# Altium schematic symbol library akm.SchLib: 23 symbols
Pins are listed as number, name and electrical type; pins without a type are passive.

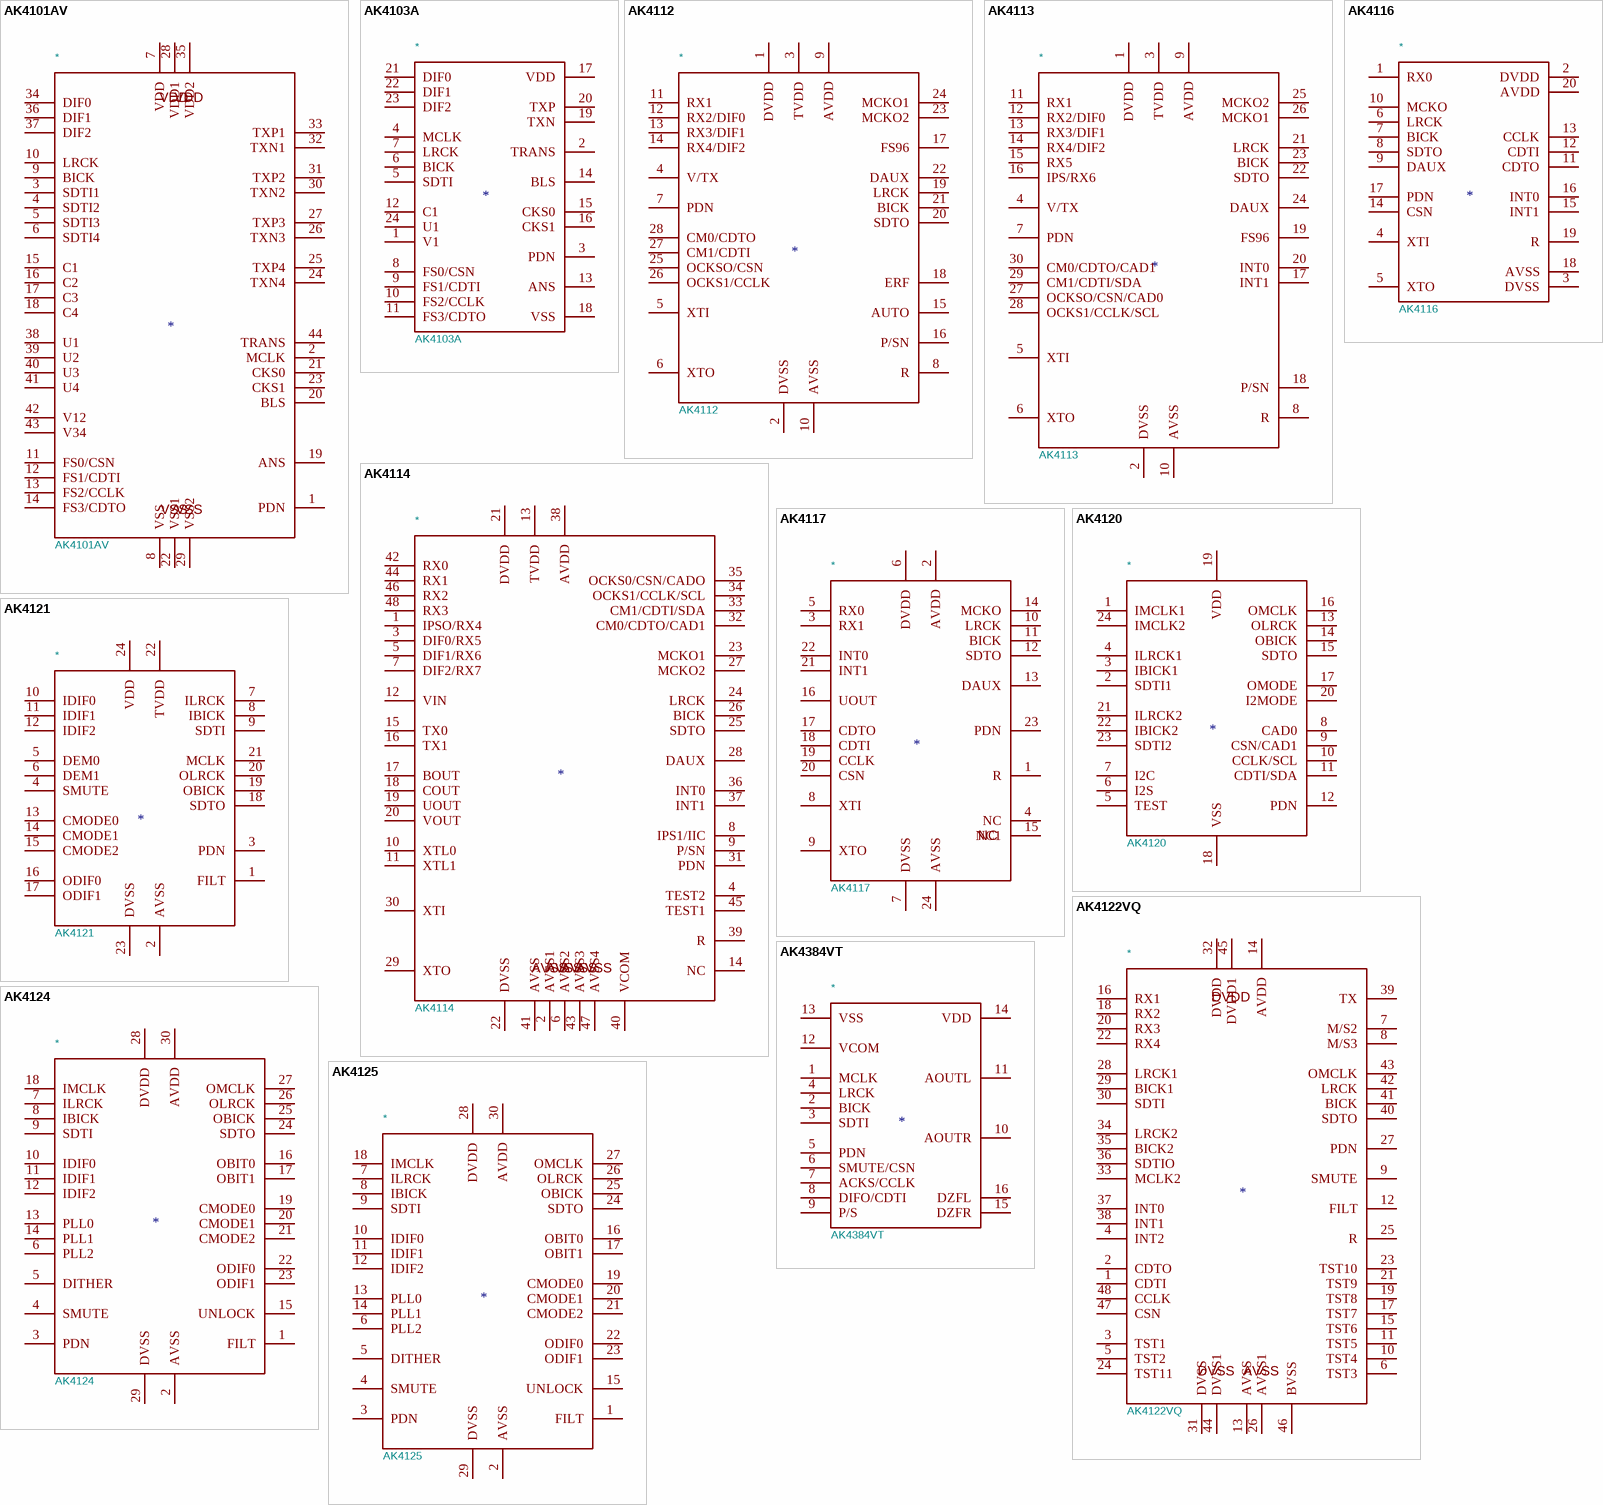
[diagram p0: symbols AK4101AV to AK4384VT]

## AK4101AV
designator *  value AK4101AV
Footprint: akm-LQFP44
footprint akm-LQFP44
pins: 1 PDN, 2 MCLK, 3 SDTI1, 4 SDTI2, 5 SDTI3, 6 SDTI4, 7 VDD, 8 VSS, 9 BICK, 10 LRCK, 11 FS0/CSN, 12 FS1/CDTI, 13 FS2/CCLK, 14 FS3/CDTO, 15 C1, 16 C2, 17 C3, 18 C4, 19 ANS, 20 BLS, 21 CKS0, 22 VSS1, 23 CKS1, 24 TXN4, 25 TXP4, 26 TXN3, 27 TXP3, 28 VDD1, 29 VSS2, 30 TXN2, 31 TXP2, 32 TXN1, 33 TXP1, 34 DIF0, 35 VDD2, 36 DIF1, 37 DIF2, 38 U1, 39 U2, 40 U3, 41 U4, 42 V12, 43 V34, 44 TRANS

## AK4103A
designator *  value AK4103A
Footprint: Package_SO:TSSOP-24_6.1x7.8mm_P0.65mm
footprint TSSOP-24_6.1x7.8mm_P0.65mm
pins: 1 V1, 2 TRANS, 3 PDN, 4 MCLK, 5 SDTI, 6 BICK, 7 LRCK, 8 FS0/CSN, 9 FS1/CDTI, 10 FS2/CCLK, 11 FS3/CDTO, 12 C1, 13 ANS, 14 BLS, 15 CKS0, 16 CKS1, 17 VDD, 18 VSS, 19 TXN, 20 TXP, 21 DIF0, 22 DIF1, 23 DIF2, 24 U1

## AK4112
designator *  value AK4112
Footprint: akm-VSOP28
footprint akm-VSOP28
pins: 1 DVDD, 2 DVSS, 3 TVDD, 4 V/TX, 5 XTI, 6 XTO, 7 PDN, 8 R, 9 AVDD, 10 AVSS, 11 RX1, 12 RX2/DIF0, 13 RX3/DIF1, 14 RX4/DIF2, 15 AUTO, 16 P/SN, 17 FS96, 18 ERF, 19 LRCK, 20 SDTO, 21 BICK, 22 DAUX, 23 MCKO2, 24 MCKO1, 25 OCKSO/CSN, 26 OCKS1/CCLK, 27 CM1/CDTI, 28 CM0/CDTO

## AK4113
designator *  value AK4113
Footprint: akm-VSOP30
footprint akm-VSOP30
pins: 1 DVDD, 2 DVSS, 3 TVDD, 4 V/TX, 5 XTI, 6 XTO, 7 PDN, 8 R, 9 AVDD, 10 AVSS, 11 RX1, 12 RX2/DIF0, 13 RX3/DIF1, 14 RX4/DIF2, 15 RX5, 16 IPS/RX6, 17 INT1, 18 P/SN, 19 FS96, 20 INT0, 21 LRCK, 22 SDTO, 23 BICK, 24 DAUX, 25 MCKO2, 26 MCKO1, 27 OCKSO/CSN/CAD0, 28 OCKS1/CCLK/SCL, 29 CM1/CDTI/SDA, 30 CM0/CDTO/CAD1

## AK4114
designator *  value AK4114
Footprint: akm-LQFP48
footprint akm-LQFP48
pins: 1 IPSO/RX4, 2 AVSS1, 3 DIF0/RX5, 4 TEST2, 5 DIF1/RX6, 6 AVSS2, 7 DIF2/RX7, 8 IPS1/IIC, 9 P/SN, 10 XTL0, 11 XTL1, 12 VIN, 13 TVDD, 14 NC, 15 TX0, 16 TX1, 17 BOUT, 18 COUT, 19 UOUT, 20 VOUT, 21 DVDD, 22 DVSS, 23 MCKO1, 24 LRCK, 25 SDTO, 26 BICK, 27 MCKO2, 28 DAUX, 29 XTO, 30 XTI, 31 PDN, 32 CM0/CDTO/CAD1, 33 CM1/CDTI/SDA, 34 OCKS1/CCLK/SCL, 35 OCKS0/CSN/CADO, 36 INT0, 37 INT1, 38 AVDD, 39 R, 40 VCOM, 41 AVSS, 42 RX0, 43 AVSS3, 44 RX1, 45 TEST1, 46 RX2, 47 AVSS4, 48 RX3

## AK4116
designator *  value AK4116
Footprint: akm-QFN20
footprint akm-QFN20
pins: 1 RX0, 2 DVDD, 3 DVSS, 4 XTI, 5 XTO, 6 LRCK, 7 BICK, 8 SDTO, 9 DAUX, 10 MCKO, 11 CDTO, 12 CDTI, 13 CCLK, 14 CSN, 15 INT1, 16 INT0, 17 PDN, 18 AVSS, 19 R, 20 AVDD

## AK4117
designator *  value AK4117
Footprint: akm-VSOP24
footprint akm-VSOP24
pins: 1 R, 2 AVDD, 3 RX1, 4 NC, 5 RX0, 6 DVDD, 7 DVSS, 8 XTI, 9 XTO, 10 LRCK, 11 BICK, 12 SDTO, 13 DAUX, 14 MCKO, 15 NC1, 16 UOUT, 17 CDTO, 18 CDTI, 19 CCLK, 20 CSN, 21 INT1, 22 INT0, 23 PDN, 24 AVSS

## AK4120
designator *  value AK4120
Footprint: akm-VSOP24
footprint akm-VSOP24
pins: 1 IMCLK1, 2 SDTI1, 3 IBICK1, 4 ILRCK1, 5 TEST, 6 I2S, 7 I2C, 8 CAD0, 9 CSN/CAD1, 10 CCLK/SCL, 11 CDTI/SDA, 12 PDN, 13 OLRCK, 14 OBICK, 15 SDTO, 16 OMCLK, 17 OMODE, 18 VSS, 19 VDD, 20 I2MODE, 21 ILRCK2, 22 IBICK2, 23 SDTI2, 24 IMCLK2

## AK4121
designator *  value AK4121
Footprint: akm-VSOP24
footprint akm-VSOP24
pins: 1 FILT, 2 AVSS, 3 PDN, 4 SMUTE, 5 DEM0, 6 DEM1, 7 ILRCK, 8 IBICK, 9 SDTI, 10 IDIF0, 11 IDIF1, 12 IDIF2, 13 CMODE0, 14 CMODE1, 15 CMODE2, 16 ODIF0, 17 ODIF1, 18 SDTO, 19 OBICK, 20 OLRCK, 21 MCLK, 22 TVDD, 23 DVSS, 24 VDD

## AK4122VQ
designator *  value AK4122VQ
Footprint: akm-LQFP48
footprint akm-LQFP48
pins: 1 CDTI, 2 CDTO, 3 TST1, 4 INT2, 5 TST2, 6 TST3, 7 M/S2, 8 M/S3, 9 SMUTE, 10 TST4, 11 TST5, 12 FILT, 13 AVSS, 14 AVDD, 15 TST6, 16 RX1, 17 TST7, 18 RX2, 19 TST8, 20 RX3, 21 TST9, 22 RX4, 23 TST10, 24 TST11, 25 R, 26 AVSS1, 27 PDN, 28 LRCK1, 29 BICK1, 30 SDTI, 31 DVSS, 32 DVDD, 33 MCLK2, 34 LRCK2, 35 BICK2, 36 SDTIO, 37 INT0, 38 INT1, 39 TX, 40 SDTO, 41 BICK, 42 LRCK, 43 OMCLK, 44 DVSS1, 45 DVDD1, 46 BVSS, 47 CSN, 48 CCLK

## AK4124
designator *  value AK4124
Footprint: akm-VSOP30
footprint akm-VSOP30
pins: 1 FILT, 2 AVSS, 3 PDN, 4 SMUTE, 5 DITHER, 6 PLL2, 7 ILRCK, 8 IBICK, 9 SDTI, 10 IDIF0, 11 IDIF1, 12 IDIF2, 13 PLL0, 14 PLL1, 15 UNLOCK, 16 OBIT0, 17 OBIT1, 18 IMCLK, 19 CMODE0, 20 CMODE1, 21 CMODE2, 22 ODIF0, 23 ODIF1, 24 SDTO, 25 OBICK, 26 OLRCK, 27 OMCLK, 28 DVDD, 29 DVSS, 30 AVDD

## AK4125
designator *  value AK4125
Footprint: akm-VSOP30
footprint akm-VSOP30
pins: 1 FILT, 2 AVSS, 3 PDN, 4 SMUTE, 5 DITHER, 6 PLL2, 7 ILRCK, 8 IBICK, 9 SDTI, 10 IDIF0, 11 IDIF1, 12 IDIF2, 13 PLL0, 14 PLL1, 15 UNLOCK, 16 OBIT0, 17 OBIT1, 18 IMCLK, 19 CMODE0, 20 CMODE1, 21 CMODE2, 22 ODIF0, 23 ODIF1, 24 SDTO, 25 OBICK, 26 OLRCK, 27 OMCLK, 28 DVDD, 29 DVSS, 30 AVDD

## AK4384VT
designator *  value AK4384VT
Footprint: akm-TSSOP16
footprint akm-TSSOP16
pins: 1 MCLK, 2 BICK, 3 SDTI, 4 LRCK, 5 PDN, 6 SMUTE/CSN, 7 ACKS/CCLK, 8 DIFO/CDTI, 9 P/S, 10 AOUTR, 11 AOUTL, 12 VCOM, 13 VSS, 14 VDD, 15 DZFR, 16 DZFL

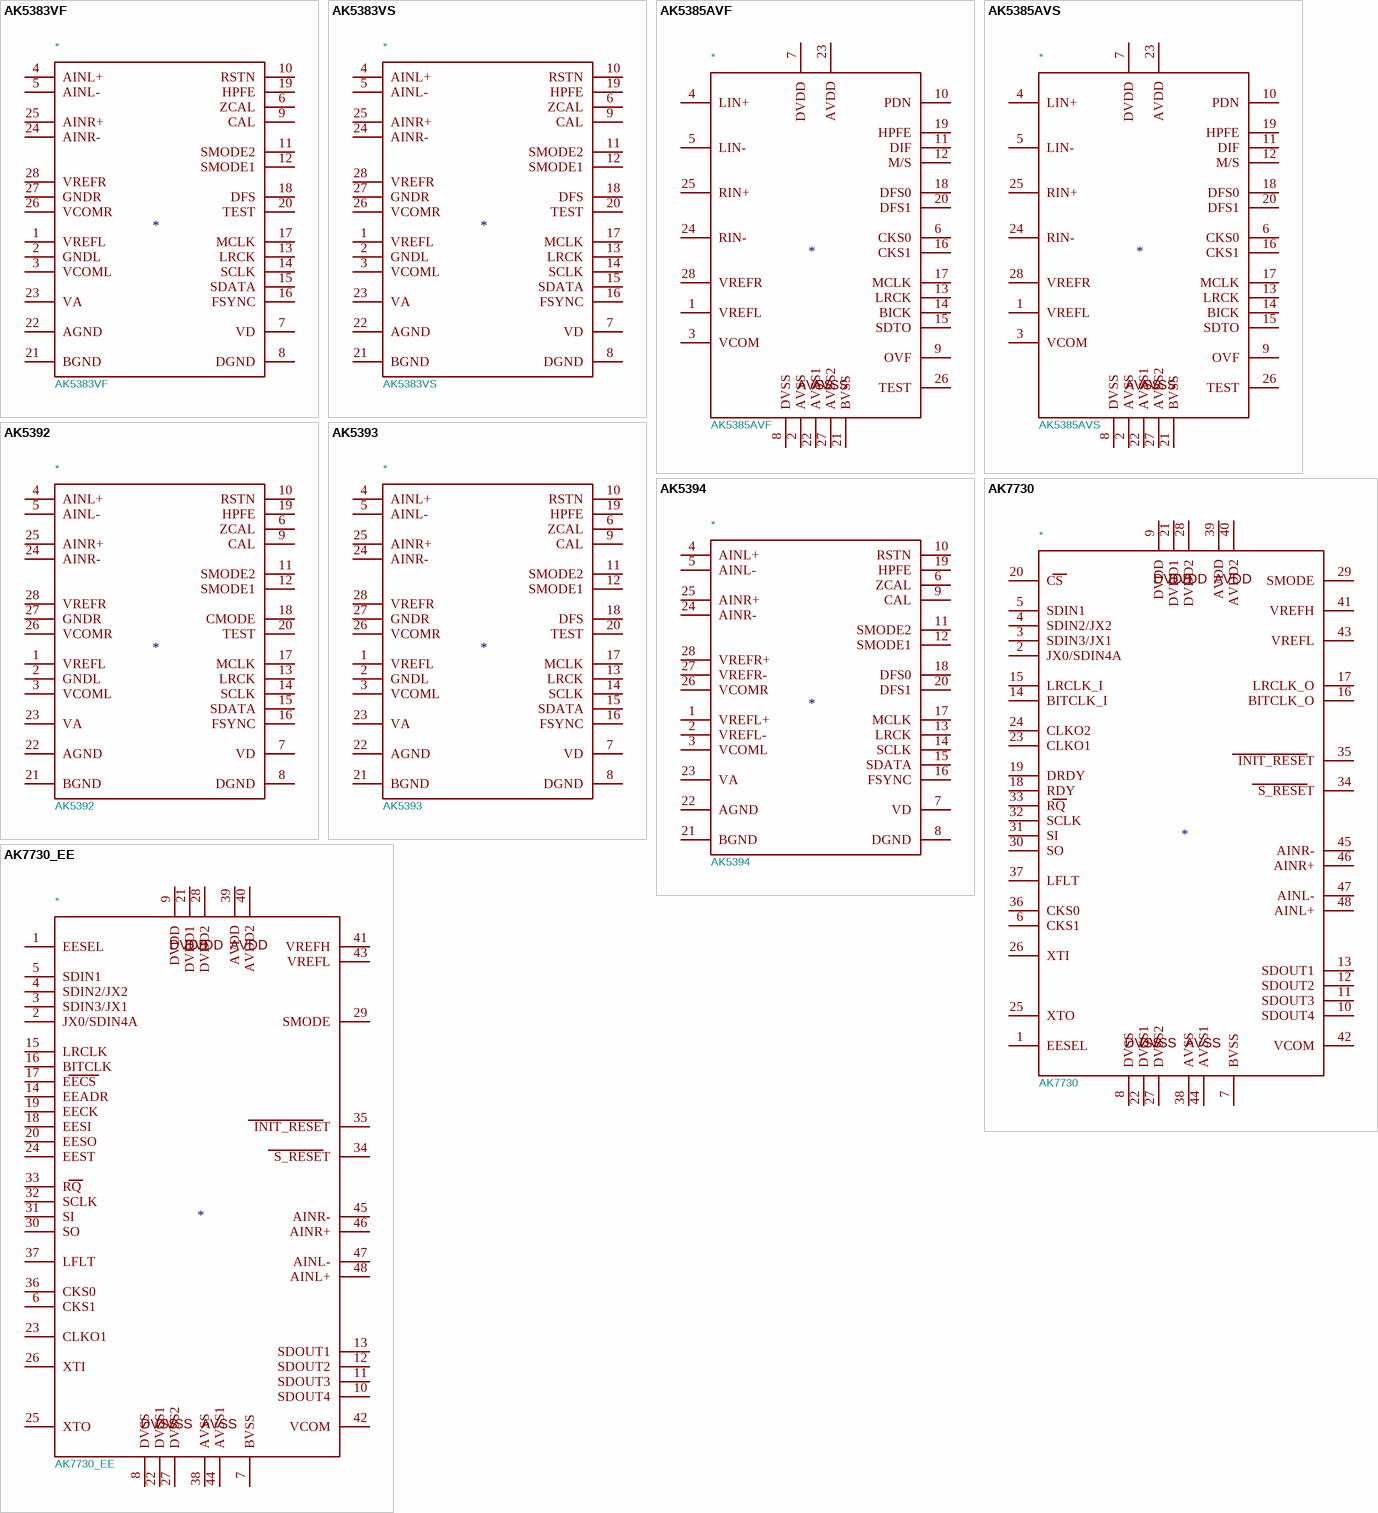
[diagram p1: symbols AK5383VF to AK7730_EE]

## AK5383VF
designator *  value AK5383VF
Footprint: akm-VSOP28
footprint akm-VSOP28
pins: 1 VREFL, 2 GNDL, 3 VCOML, 4 AINL+, 5 AINL-, 6 ZCAL, 7 VD, 8 DGND, 9 CAL, 10 RSTN, 11 SMODE2, 12 SMODE1, 13 LRCK, 14 SCLK, 15 SDATA, 16 FSYNC, 17 MCLK, 18 DFS, 19 HPFE, 20 TEST, 21 BGND, 22 AGND, 23 VA, 24 AINR-, 25 AINR+, 26 VCOMR, 27 GNDR, 28 VREFR

## AK5383VS
designator *  value AK5383VS
Footprint: akm-SO28W
footprint akm-SO28W
pins: 1 VREFL, 2 GNDL, 3 VCOML, 4 AINL+, 5 AINL-, 6 ZCAL, 7 VD, 8 DGND, 9 CAL, 10 RSTN, 11 SMODE2, 12 SMODE1, 13 LRCK, 14 SCLK, 15 SDATA, 16 FSYNC, 17 MCLK, 18 DFS, 19 HPFE, 20 TEST, 21 BGND, 22 AGND, 23 VA, 24 AINR-, 25 AINR+, 26 VCOMR, 27 GNDR, 28 VREFR

## AK5385AVF
designator *  value AK5385AVF
Footprint: akm-VSOP28
footprint akm-VSOP28
pins: 1 VREFL, 2 AVSS, 3 VCOM, 4 LIN+, 5 LIN-, 6 CKS0, 7 DVDD, 8 DVSS, 9 OVF, 10 PDN, 11 DIF, 12 M/S, 13 LRCK, 14 BICK, 15 SDTO, 16 CKS1, 17 MCLK, 18 DFS0, 19 HPFE, 20 DFS1, 21 BVSS, 22 AVSS1, 23 AVDD, 24 RIN-, 25 RIN+, 26 TEST, 27 AVSS2, 28 VREFR

## AK5385AVS
designator *  value AK5385AVS
Footprint: akm-SO28W
footprint akm-SO28W
pins: 1 VREFL, 2 AVSS, 3 VCOM, 4 LIN+, 5 LIN-, 6 CKS0, 7 DVDD, 8 DVSS, 9 OVF, 10 PDN, 11 DIF, 12 M/S, 13 LRCK, 14 BICK, 15 SDTO, 16 CKS1, 17 MCLK, 18 DFS0, 19 HPFE, 20 DFS1, 21 BVSS, 22 AVSS1, 23 AVDD, 24 RIN-, 25 RIN+, 26 TEST, 27 AVSS2, 28 VREFR

## AK5392
designator *  value AK5392
Footprint: akm-SO28W
footprint akm-SO28W
pins: 1 VREFL, 2 GNDL, 3 VCOML, 4 AINL+, 5 AINL-, 6 ZCAL, 7 VD, 8 DGND, 9 CAL, 10 RSTN, 11 SMODE2, 12 SMODE1, 13 LRCK, 14 SCLK, 15 SDATA, 16 FSYNC, 17 MCLK, 18 CMODE, 19 HPFE, 20 TEST, 21 BGND, 22 AGND, 23 VA, 24 AINR-, 25 AINR+, 26 VCOMR, 27 GNDR, 28 VREFR

## AK5393
designator *  value AK5393
Footprint: akm-SO28W
footprint akm-SO28W
pins: 1 VREFL, 2 GNDL, 3 VCOML, 4 AINL+, 5 AINL-, 6 ZCAL, 7 VD, 8 DGND, 9 CAL, 10 RSTN, 11 SMODE2, 12 SMODE1, 13 LRCK, 14 SCLK, 15 SDATA, 16 FSYNC, 17 MCLK, 18 DFS, 19 HPFE, 20 TEST, 21 BGND, 22 AGND, 23 VA, 24 AINR-, 25 AINR+, 26 VCOMR, 27 GNDR, 28 VREFR

## AK5394
designator *  value AK5394
Footprint: akm-SO28W
footprint akm-SO28W
pins: 1 VREFL+, 2 VREFL-, 3 VCOML, 4 AINL+, 5 AINL-, 6 ZCAL, 7 VD, 8 DGND, 9 CAL, 10 RSTN, 11 SMODE2, 12 SMODE1, 13 LRCK, 14 SCLK, 15 SDATA, 16 FSYNC, 17 MCLK, 18 DFS0, 19 HPFE, 20 DFS1, 21 BGND, 22 AGND, 23 VA, 24 AINR-, 25 AINR+, 26 VCOMR, 27 VREFR-, 28 VREFR+

## AK7730
designator *  value AK7730
Footprint: akm-LQFP48
footprint akm-LQFP48
pins: 1 EESEL, 2 JX0/SDIN4A, 3 SDIN3/JX1, 4 SDIN2/JX2, 5 SDIN1, 6 CKS1, 7 BVSS, 8 DVSS, 9 DVDD, 10 SDOUT4, 11 SDOUT3, 12 SDOUT2, 13 SDOUT1, 14 BITCLK_I, 15 LRCLK_I, 16 BITCLK_O, 17 LRCLK_O, 18 RDY, 19 DRDY, 20 CS, 21 DVDD1, 22 DVSS1, 23 CLKO1, 24 CLKO2, 25 XTO, 26 XTI, 27 DVSS2, 28 DVDD2, 29 SMODE, 30 SO, 31 SI, 32 SCLK, 33 RQ, 34 S_RESET, 35 INIT_RESET, 36 CKS0, 37 LFLT, 38 AVSS, 39 AVDD, 40 AVDD2, 41 VREFH, 42 VCOM, 43 VREFL, 44 AVSS1, 45 AINR-, 46 AINR+, 47 AINL-, 48 AINL+

## AK7730_EE
designator *  value AK7730_EE
Footprint: akm-LQFP48
footprint akm-LQFP48
pins: 1 EESEL, 2 JX0/SDIN4A, 3 SDIN3/JX1, 4 SDIN2/JX2, 5 SDIN1, 6 CKS1, 7 BVSS, 8 DVSS, 9 DVDD, 10 SDOUT4, 11 SDOUT3, 12 SDOUT2, 13 SDOUT1, 14 EEADR, 15 LRCLK, 16 BITCLK, 17 EECS, 18 EESI, 19 EECK, 20 EESO, 21 DVDD1, 22 DVSS1, 23 CLKO1, 24 EEST, 25 XTO, 26 XTI, 27 DVSS2, 28 DVDD2, 29 SMODE, 30 SO, 31 SI, 32 SCLK, 33 RQ, 34 S_RESET, 35 INIT_RESET, 36 CKS0, 37 LFLT, 38 AVSS, 39 AVDD, 40 AVDD2, 41 VREFH, 42 VCOM, 43 VREFL, 44 AVSS1, 45 AINR-, 46 AINR+, 47 AINL-, 48 AINL+

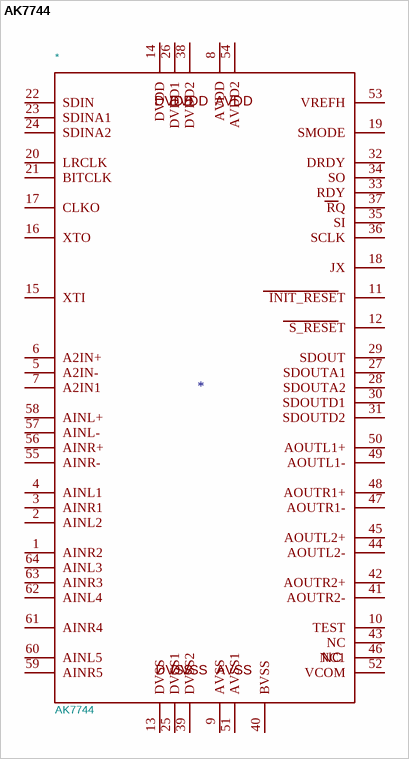
[diagram p2: symbol AK7744]

## AK7744
designator *  value AK7744
Footprint: akm-LQFP64
footprint akm-LQFP64
pins: 1 AINR2, 2 AINL2, 3 AINR1, 4 AINL1, 5 A2IN-, 6 A2IN+, 7 A2IN1, 8 AVDD, 9 AVSS, 10 TEST, 11 INIT_RESET, 12 S_RESET, 13 DVSS, 14 DVDD, 15 XTI, 16 XTO, 17 CLKO, 18 JX, 19 SMODE, 20 LRCLK, 21 BITCLK, 22 SDIN, 23 SDINA1, 24 SDINA2, 25 DVSS1, 26 DVDD1, 27 SDOUTA1, 28 SDOUTA2, 29 SDOUT, 30 SDOUTD1, 31 SDOUTD2, 32 DRDY, 33 RDY, 34 SO, 35 SI, 36 SCLK, 37 RQ, 38 DVDD2, 39 DVSS2, 40 BVSS, 41 AOUTR2-, 42 AOUTR2+, 43 NC, 44 AOUTL2-, 45 AOUTL2+, 46 NC1, 47 AOUTR1-, 48 AOUTR1+, 49 AOUTL1-, 50 AOUTL1+, 51 AVSS1, 52 VCOM, 53 VREFH, 54 AVDD2, 55 AINR-, 56 AINR+, 57 AINL-, 58 AINL+, 59 AINR5, 60 AINL5, 61 AINR4, 62 AINL4, 63 AINR3, 64 AINL3